# Altium schematic symbol library R-RJ45R10P-B000.SchLib: 1 symbol
Pins are listed as number, name and electrical type; pins without a type are passive.

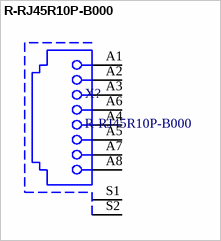
[diagram p0: symbol R-RJ45R10P-B000]

## R-RJ45R10P-B000
designator X?
RJ45Receptacle 1 Shielded Bend insert Without LED 0℃~+70℃ Plugin Ethernet Connectors / Modular Connectors (RJ45 RJ11) ROHS
pins: A1, A2, A3, A4, A5, A6, A7, A8, S1, S2